# Altium footprint library ECE315_S20.PcbLib: 20 footprints (part 2 of 2)
Each footprint in its own frame and in the unit in brackets; x right, y up, seen from the top. Pads: shape width x height; smd on the part's side, far side on the other; paste and mask are expansions set on the pad; w line width, h text height; cw(c..) or ccw(c..) is an arc to the next point about the centre after c.
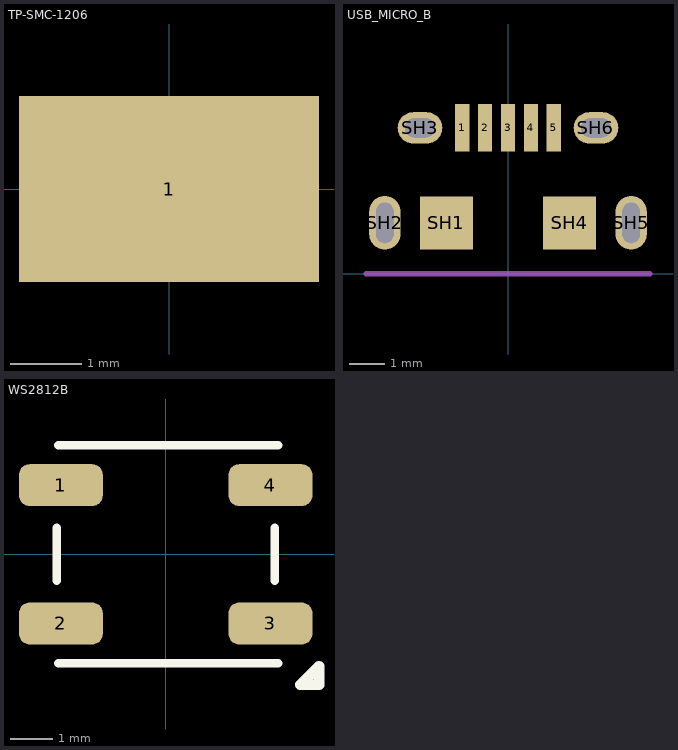
[diagram p1: the footprints below, top view; thin cyan lines are the x and y axes]

## TP-SMC-1206 [mm]
pads (1):
  rect 4.2x2.6 smd mask+0: 1(0,0)
3D body "c-1625854-1-ba-3d.stp": height 1.22, standoff -0.03, extent -1.575,-0.787 1.625,0.813

## TQFP8_STM32FM [mm]

## USB_MICRO_B [mm]
pads (11):
  rect 0.4x1.35 smd: 1(-1.3,4.15) 2(-0.65,4.15) 3(0,4.15) 4(0.65,4.15) 5(1.3,4.15)
  rect 1.5x1.5 smd: SH1(-1.75,1.45) SH4(1.75,1.45)
  oval 0.889x1.524 hole 0.5 slot 1.15 at 90 deg: SH2(-3.5,1.45) SH5(3.5,1.45)
  oval 1.27x0.889 hole 0.55 slot 0.85 at 0 deg: SH3(-2.5,4.15) SH6(2.5,4.15)
Mechanical 1:
  lines w0.152: -4.025,0 0,0 4.025,0
  text "Board Edge" at -2.667,-1.143 h1.27
3D body "10118194c.stp": height 2.77, standoff -0.5, extent -4.025,-1.27 4.025,4.31
3D body: height 16.51, standoff -9.14, extent -0.127,2.794 -0.127,2.794

## WS2812B [mm]
pads (4):
  rrect50% 2x1 smd: 1(-2.5,1.65) 2(-2.5,-1.65) 3(2.5,-1.65) 4(2.5,1.65)
Top Overlay:
  lines w0.2: -2.6,-0.635 -2.6,0.635 ; -2.565,-2.6 2.685,-2.6 ; -2.565,2.6 2.685,2.6 ; 2.6,-0.635 2.6,0.635
  lines w0.254: 3.214,-3.113 3.658,-2.669 3.658,-3.113 3.214,-3.113
3D body "WS2812_RGB_LED_updated.stp": height 1.7, standoff 0, extent -2.732,-2.532 2.618,2.418